# EAGLE library part MAX63 (library WDT)
MAX6369-MAX6374 Maxim Watch Doc Timer datasheet <https://www.maximintegrated.com/en/products/power/supervisors-voltage-monitors-sequencers/MAX6370.html>
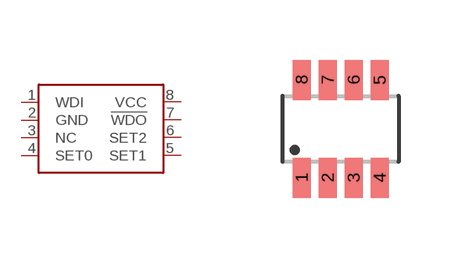
[diagram p0: symbol with the pads of SOT23-8L; footprint SOT23-8L]

Designator prefix U

## MAX6369  [SOT23-8L]
1  WDI
2  GND
3  NC
4  SET0
5  SET1
6  SET2
7  !WDO
8  VCC

## MAX6370  [SOT23-8L]
Pads as for SOT23-8L

## MAX6371  [SOT23-8L]
Pads as for SOT23-8L

## MAX6372  [SOT23-8L]
Pads as for SOT23-8L

## MAX6373  [SOT23-8L]
Pads as for SOT23-8L

## MAX6374  [SOT23-8L]
Pads as for SOT23-8L

## Footprint SOT23-8L (pad centres in mm)
SC70/SOT23-8 Source: http://datasheets.maxim-ic.com/en/ds/MAX4335-MAX4338.pdf
smd 0.45 x 1: 1 -0.975,-1.225; 2 -0.325,-1.225; 3 0.325,-1.225; 4 0.975,-1.225; 5 0.975,1.225; 6 0.325,1.225; 7 -0.325,1.225; 8 -0.975,1.225